# EAGLE library part BMP388 (library bosch-bmp388)
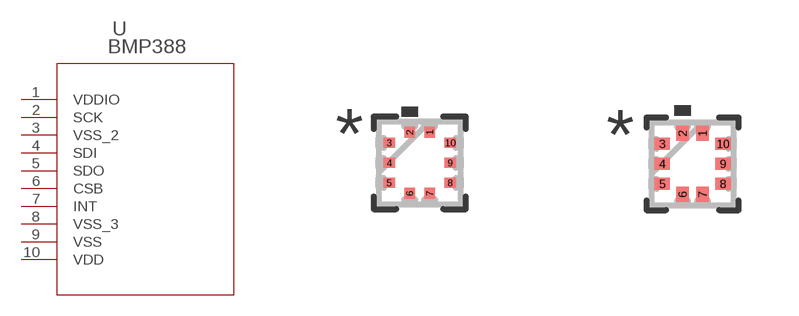
[diagram p0: symbol with the pads of QFN_BMP388_BOS; footprints QFN_BMP388_BOS, QFN_BMP388_BOS-M]

Designator prefix U

## BMP388QFN_BMP388_BOS (Copyright: Copyright (C) 2022 Ultra Librarian. All rights reserved.; Manufacturer_Part_Number: BMP388; Mfr_Name: Bosch Sensortec)  [QFN_BMP388_BOS]
1  VDDIO  pwr
2  SCK  pas
3  VSS_2  pas
4  SDI  pas
5  SDO  pas
6  CSB  pas
7  INT  pas
8  VSS_3  pas
9  VSS  pas
10  VDD  pwr

## BMP388QFN_BMP388_BOS-M (Copyright: Copyright (C) 2022 Ultra Librarian. All rights reserved.; Manufacturer_Part_Number: BMP388; Mfr_Name: Bosch Sensortec)  [QFN_BMP388_BOS-M]
Pads as for QFN_BMP388_BOS

## BMP388QFN_BMP388_BOS-L (Copyright: Copyright (C) 2022 Ultra Librarian. All rights reserved.; Manufacturer_Part_Number: BMP388; Mfr_Name: Bosch Sensortec)  [QFN_BMP388_BOS-L]
Pads as for QFN_BMP388_BOS

## Footprint QFN_BMP388_BOS (pad centres in mm)
smd 0.254 x 0.279: 1 0.25,0.762; 2 -0.25,0.762; 6 -0.25,-0.762; 7 0.25,-0.762
smd 0.279 x 0.254: 3 -0.762,0.5; 4 -0.762,0; 5 -0.762,-0.5; 8 0.762,-0.5; 9 0.762,0; 10 0.762,0.5

## Footprint QFN_BMP388_BOS-M (pad centres in mm)
smd 0.304 x 0.379: 1 0.25,0.762; 2 -0.25,0.762; 6 -0.25,-0.762; 7 0.25,-0.762
smd 0.379 x 0.304: 3 -0.762,0.5; 4 -0.762,0; 5 -0.762,-0.5; 8 0.762,-0.5; 9 0.762,0; 10 0.762,0.5

## Footprint QFN_BMP388_BOS-L (pad centres in mm)
smd 0.204 x 0.179: 1 0.25,0.762; 2 -0.25,0.762; 6 -0.25,-0.762; 7 0.25,-0.762
smd 0.179 x 0.204: 3 -0.762,0.5; 4 -0.762,0; 5 -0.762,-0.5; 8 0.762,-0.5; 9 0.762,0; 10 0.762,0.5